# EAGLE library part ADAFRUIT_GPS_BREAKOUT_V3 (library CANSat)
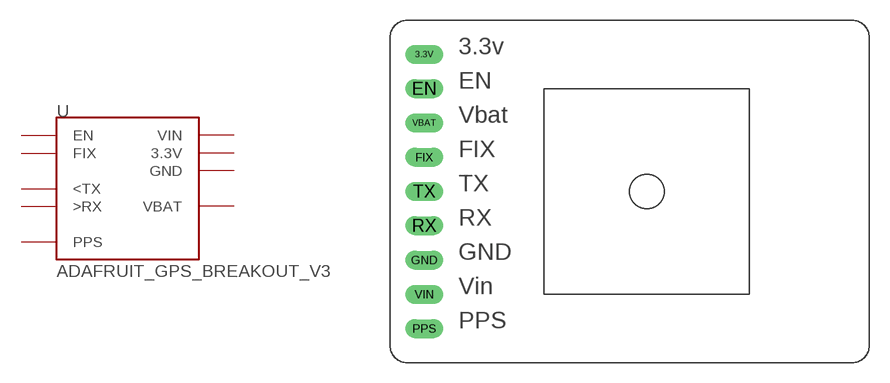
[diagram p0: symbol with the pads of ADAFRUIT_GPS_BREAKOUT_V3; footprint ADAFRUIT_GPS_BREAKOUT_V3]

Designator prefix -

## ADAFRUIT_GPS_BREAKOUT_V3  [ADAFRUIT_GPS_BREAKOUT_V3]
3.3V  3.3V  pwr
EN  EN
FIX  FIX
GND  GND  pwr
PPS  PPS
RX  >RX  in
TX  <TX  out
VBAT  VBAT  pwr
VIN  VIN  pwr

## Footprint ADAFRUIT_GPS_BREAKOUT_V3 (pad centres in mm)
drill 0.7 pad 1.422 long: 3.3V -5.08,10.16; EN -5.08,7.62; FIX -5.08,2.54; GND -5.08,-5.08; PPS -5.08,-10.16; RX -5.08,-2.54; TX -5.08,0; VBAT -5.08,5.08; VIN -5.08,-7.62